# EAGLE library part OPAMP-ST-LMV324ID (library Pygmy)
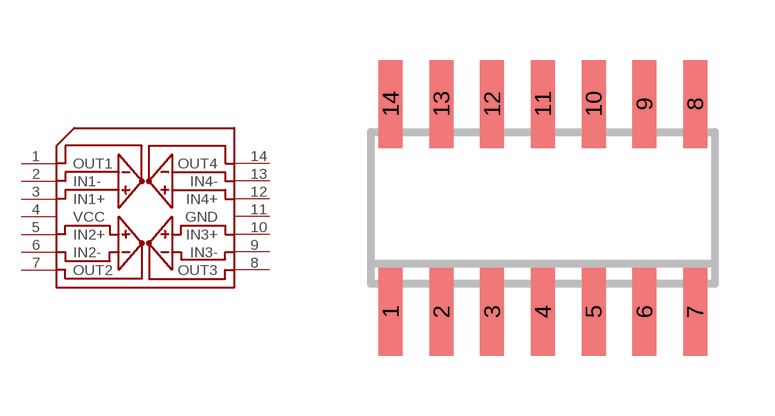
[diagram p49: symbol with the pads of SO-14; footprint SO-14]

Designator prefix -

## OPAMP-ST-LMV324ID  [SO-14]
1  OUT1
2  IN1-
3  IN1+
4  VCC
5  IN2+
6  IN2-
7  OUT2
8  OUT3
9  IN3-
10  IN3+
11  GND
12  IN4+
13  IN4-
14  OUT4

## Footprint SO-14 (pad centres in mm)
Small Outline Narrow Plastic Gull Wing 150-mil body, package type SL
smd 0.6 x 2.2: 1 -3.81,-2.6; 2 -2.54,-2.6; 3 -1.27,-2.6; 4 0,-2.6; 5 1.27,-2.6; 6 2.54,-2.6; 7 3.81,-2.6; 8 3.81,2.6; 9 2.54,2.6; 10 1.27,2.6; 11 0,2.6; 12 -1.27,2.6; 13 -2.54,2.6; 14 -3.81,2.6